# Altium schematic symbol library CON RJ45_SHIELD.SchLib: 1 symbol
Pins are listed as number, name and electrical type; pins without a type are passive.

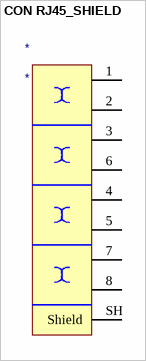
[diagram p0: symbol CON RJ45_SHIELD]

## CON RJ45_SHIELD
designator *
pins: 1 VCC, 2 VCC, 3 VCC, 4 VCC, 5, 6, 7, 8, SH Shield